# Altium schematic symbol library HW_ADHERENT_SYSCTRL_R1_L4.SchLib: 1634 symbols (part 15 of 31)
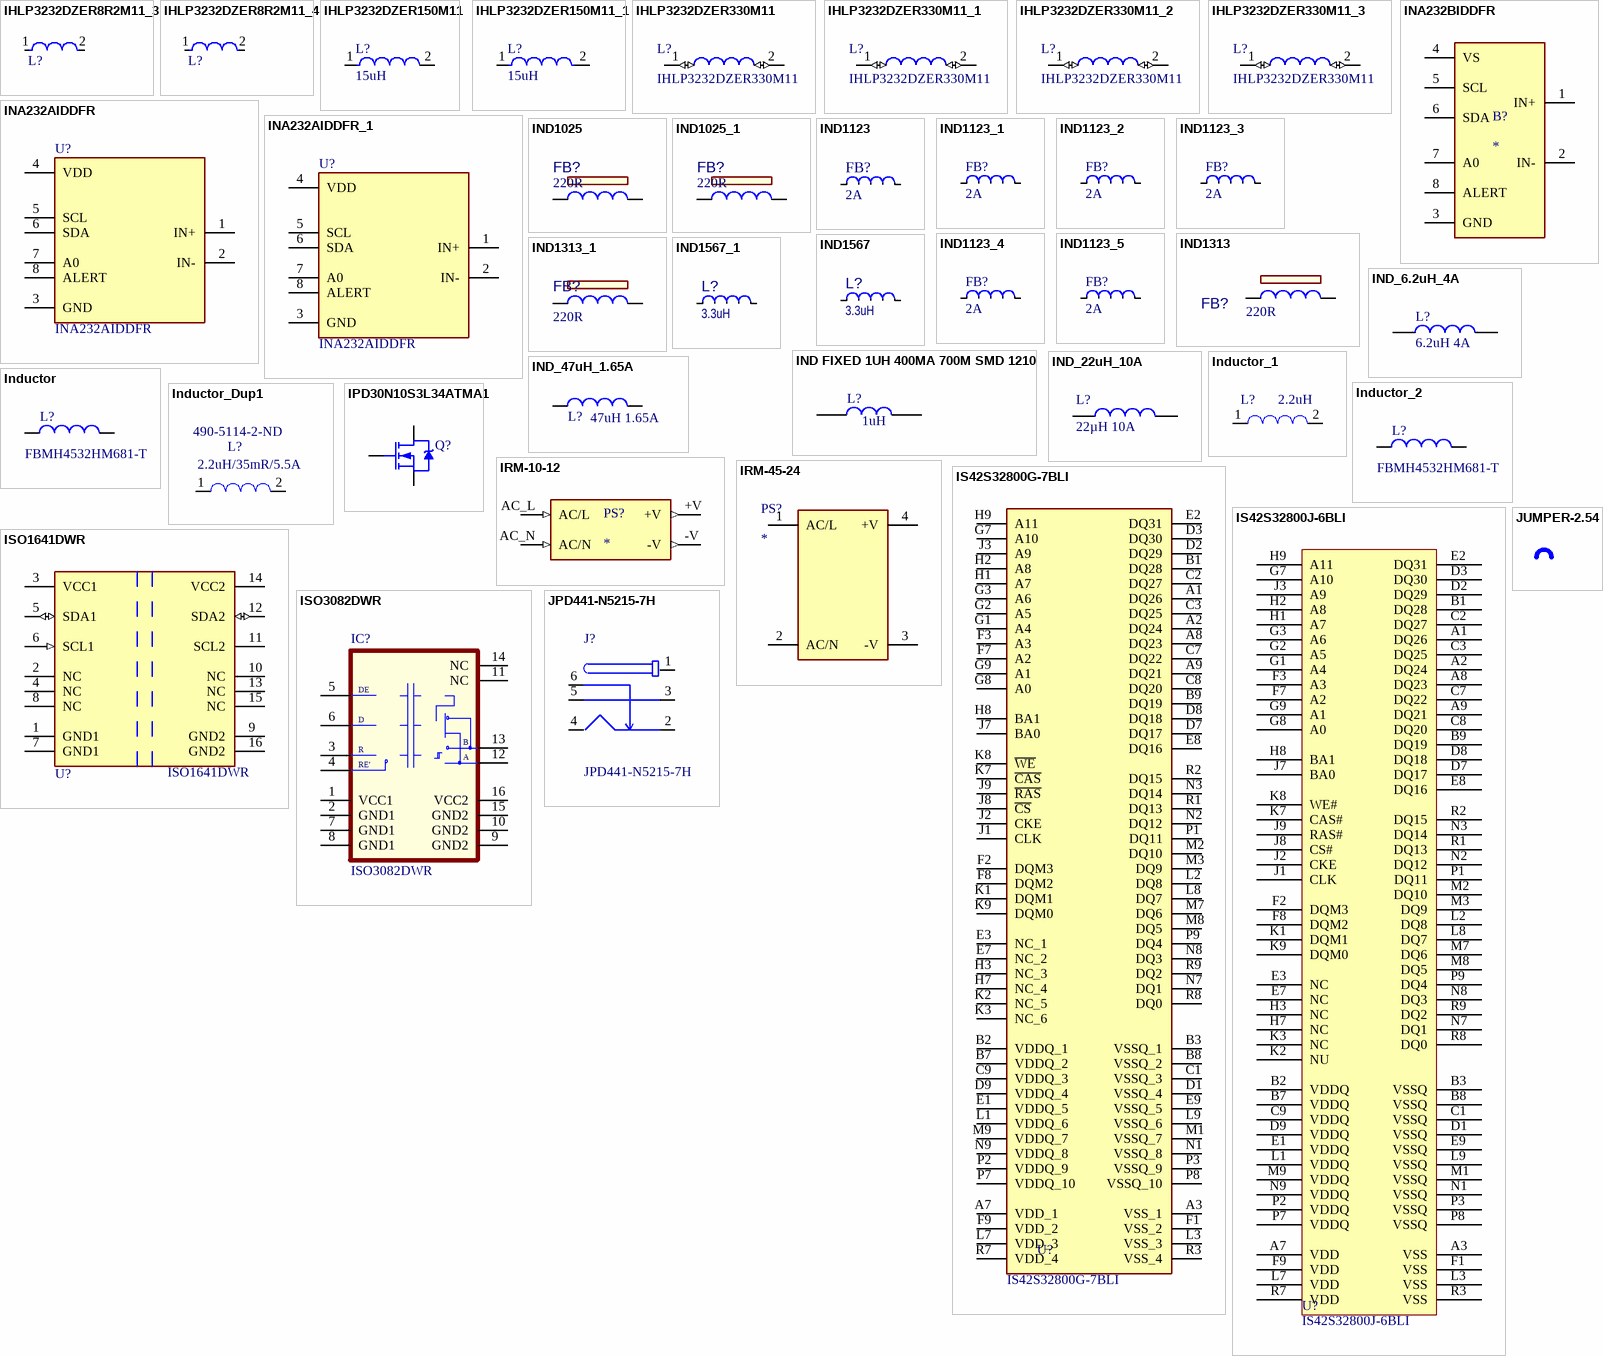
[diagram p64: symbols IHLP3232DZER8R2M11_3 to JUMPER-2.54]

## Inductor
designator L?, comment FBMH4532HM681-T
FERRITE BEAD 680 OHM 1812 1LN; Manufacturer: Taiyo Yuden; Value: FBMH4532HM681-T; Manufacturer Part Number: FBMH4532HM681-T; Supplier Part Number: 587-1761-1-ND
simulation model INDUCTOR (Inductor)
signal-integrity model Inductor
footprint FB_FBMH4532HM681-T (FBMH4532HM681-T)
pins: 1, 2

## Inductor_1
designator L?, comment 2.2uH
Power Inductor,2.2uH,+/-20,SPH,3.0*3.0*1.2mm,SMD,Sunlord; Manufacturer P/N: SPH3012H2R2MT; PCB Footprint: L3X3; Myir P/N: 20501.00034; Part Type: Power Inductor; Manufacturer: Sunlord; Reserve Value: 2.2uH; Datasheet: SPH series of SMD Power Inductor.pdf
footprint VLCF5020T
footprint L3X3
pins: 1, 2

## Inductor_2
designator L?, comment FBMH4532HM681-T
FERRITE BEAD 680 OHM 1812 1LN; Manufacturer: Taiyo Yuden; Value: FBMH4532HM681-T; Manufacturer Part Number: FBMH4532HM681-T; Supplier Part Number: 587-1761-1-ND
simulation model INDUCTOR (Inductor)
signal-integrity model Inductor
footprint FB_FBMH4532HM681-T (FBMH4532HM681-T)
pins: 1, 2

## Inductor_Dup1
designator L?, comment 2.2uH/35mR/5.5A  Supplier Part Number 1: 490-5114-2-ND
Inductor Power Chip Shielded Multi-Layer 2.2uH 20% 1MHz Ferrite 1.3A 100mOhm DCR 1008 T/R; RP1 Manufacturer P/N: MWSA0503S-2R2MT; Manufacturer P/N: MPH0530-2R2M; Manufacturer: Vcoil; Manufacturer Part Number: LQM2HPN2R2MG0L; RP1 Myir P/N: 20501.00040; Myir P/N: 20501.00020; PCB Footprint: l5_2x5_5; Self Resonant Frequency: 40MHz; DC Resistance (DCR): 80mR; Series Resistance: 100mR; Voltage Rating: 50V; Datasheet: MPH-Inductor.pdf; Reserve Value: 2.2uH; Part Type: Power Inductor; Supplier 1: Digikey; RoHS: Yes; Category: Fixed Inductors; Stock 1: 123000; Pricing 1: 3000=0.08405, 6000=0.08142, 15000=0.07879, 30000=0.07617, 75000=0.07354 (USD); Mount: Surface Mount; Case/Package: 1008; Number of Pins: 2NUMBER; Core Material: Ferrite; Case Code (Metric): 2520; Case Code (Imperial): 1008; Min Operating Temperature: -55°C; Max Operating Temperature: 125°C; Packaging: Tape and Reel; Shielding: Shielded; Tolerance: 20%; Package Quantity: 1; Current Rating: 1.3A; Inductance: 2.2uH; Max DC Current: 1.3A; Termination: SMD/SMT; Test Frequency: 1MHz; DC Current: 1.3A; Inductance Tolerance: 20%; Series: LQM2HP_G0; RMS Current (Irms): 1.3A; Voltage Rating (DC): 50V; Length: 2.5mm; Width: 0.079inch; Height: 1.2mm; Height - Seated (Max): 0.039inch; Depth: 2.2mm; Lead Pitch: 5mm; Radiation Hardening: No; Military Standard: Not; Reach SVHC Compliant: No; RoHS Compliant: Yes; Lead Free: 5697LeadFree; ComponentLink1URL: https://datasheet.ciiva.com/30490/0900766b812561d9-30490188.pdf?src-supplier=Rs; ComponentLink1Description: https://datasheet.ciiva.com/30490/0900766b812561d9-30490188.pdf?src-supplier=Rs; ComponentLink2URL: https://datasheet.ciiva.com/18089/getdatasheetpartid-153082-18089633.pdf?src-supplier=Verical; ComponentLink2Description: https://datasheet.ciiva.com/18089/getdatasheetpartid-153082-18089633.pdf?src-supplier=Verical; ComponentLink3URL: https://datasheet.ciiva.com/1042/l0075s0104lqm2hp-g0-1042920.pdf?src-supplier=Digikey; ComponentLink3Description: https://datasheet.ciiva.com/1042/l0075s0104lqm2hp-g0-1042920.pdf?src-supplier=Digikey; ComponentLink4URL: https://datasheet.ciiva.com/1042/l0075s0104lqm2hp-g0-1042919.pdf?src-supplier=Digikey; ComponentLink4Description: https://datasheet.ciiva.com/1042/l0075s0104lqm2hp-g0-1042919.pdf?src-supplier=Digikey; ComponentLink5URL: https://datasheet.ciiva.com/1042/l0075s0104lqm2hp-g0-1042921.pdf?src-supplier=Digikey; ComponentLink5Description: https://datasheet.ciiva.com/1042/l0075s0104lqm2hp-g0-1042921.pdf?src-supplier=Digikey; ComponentLink6URL: https://datasheet.ciiva.com/4959/product-4959558.pdf?src-supplier=Mouser; ComponentLink6Description: https://datasheet.ciiva.com/4959/product-4959558.pdf?src-supplier=Mouser; ComponentLink7URL: https://datasheet.ciiva.com/8510/l0075s0104lqm2hp-g0-8510494.pdf?src-supplier=Avnet; ComponentLink7Description: https://datasheet.ciiva.com/8510/l0075s0104lqm2hp-g0-8510494.pdf?src-supplier=Avnet
footprint VLCF5020T
footprint l5_2x5_5
pins: 1, 2

## IPD30N10S3L34ATMA1
designator Q?, comment MOSFET N-CH 100V 30A TO252-3  (value not drawn)
N-Channel 100 V 30A (Tc) 57W (Tc) Surface Mount PG-TO252-3-11; Manufacturer Part Number: IPD30N10S3L34ATMA1; Value: N-Channel 100 V 30A (Tc) 57W (Tc) Surface Mount PG-TO252-3-11
footprint TO-252_L6.5-W6.1-P4.58-LS9.9-BR
pins: 1 G, 2 D, 3 S

## IRM-10-12
designator PS?
Power Supply,AC-DC,12V,0.85A,100-264V In,Encapsulated,Thru-Hole,IRM Series | MEAN WELL IRM-10-12; SnapEDA_Link: https://www.snapeda.com/parts/IRM-10-12/Mean+Well/view-part/?ref=snap; Package: None; Value: *; MF: MEAN WELL; MP: IRM-10-12; Check_prices: https://www.snapeda.com/parts/IRM-10-12/Mean+Well/view-part/?ref=eda
footprint CONV_IRM-10-12
pins: +V (out), -V (out), AC_L AC/L (in), AC_N AC/N (in)

## IRM-45-24
designator PS?
Power Supply; Manufacturer_Name: Mean Well; Manufacturer_Part_Number: IRM-45-24; Datasheet Link: http://www.meanwell.com/webapp/product/search.aspx?prod=IRM-45; Mouser Part Number: 709-IRM45-24; Mouser Price/Stock: https://www.mouser.co.uk/ProductDetail/MEAN-WELL/IRM-45-24?qs=yID0DEbBT%252BnXaXs%252BF7qwwg%3D%3D; Arrow Part Number: IRM-45-24; Arrow Price/Stock: https://www.arrow.com/en/products/irm-45-24/mean-well-enterprises?region=europe
footprint IRM-45-48
pins: 1 AC/L, 2 AC/N, 3 -V, 4 +V

## IS42S32800G-7BLI
designator U?, comment Manufacturer Part Number: IS42S32800G-7BLI  (hidden comment: IC DRAM 256MBIT PAR 90TFBGA)
SDRAM Memory IC 256Mbit Parallel 143 MHz 5.4 ns 90-TFBGA (8x13); Manufacturer Name: Integrated Silicon Solution Inc.; Order Code: Mouser: 870-IS42S32800G-7BLI; Datasheet Link: https://componentsearchengine.com/Datasheets/1/IS42S32800G-6BLI.pdf; Height: 1.2mm
footprint TFBGA-90
pins: A1 DQ26, A2 DQ24, A3 VSS_1, A7 VDD_1, A8 DQ23, A9 DQ21, B1 DQ28, B2 VDDQ_1, B3 VSSQ_1, B7 VDDQ_2, B8 VSSQ_2, B9 DQ19, C1 VSSQ_3, C2 DQ27, C3 DQ25, C7 DQ22, C8 DQ20, C9 VDDQ_3, D1 VSSQ_4, D2 DQ29, D3 DQ30, D7 DQ17, D8 DQ18, D9 VDDQ_4, E1 VDDQ_5, E2 DQ31, E3 NC_1, E7 NC_2, E8 DQ16, E9 VSSQ_5, F1 VSS_2, F2 DQM3, F3 A3, F7 A2, F8 DQM2, F9 VDD_2, G1 A4, G2 A5, G3 A6, G7 A10, G8 A0, G9 A1, H1 A7, H2 A8, H3 NC_3, H7 NC_4, H8 BA1, H9 A11, J1 CLK, J2 CKE, J3 A9, J7 BA0, J8 ~{CS}, J9 ~{RAS}, K1 DQM1, K2 NC_5, K3 NC_6, K7 ~{CAS}, K8 ~{WE}, K9 DQM0, L1 VDDQ_6, L2 DQ8, L3 VSS_3, L7 VDD_3, L8 DQ7, L9 VSSQ_6, M1 VSSQ_7, M2 DQ10, M3 DQ9, M7 DQ6, M8 DQ5, M9 VDDQ_7, N1 VSSQ_8, N2 DQ12, N3 DQ14, N7 DQ1, N8 DQ3, N9 VDDQ_8, P1 DQ11, P2 VDDQ_9, P3 VSSQ_9, P7 VDDQ_10, P8 VSSQ_10, P9 DQ4, R1 DQ13, R2 DQ15, R3 VSS_4, R7 VDD_4, R8 DQ0, R9 DQ2

## IS42S32800J-6BLI
designator U?
SDRAM Memory IC 256Mbit Parallel 166 MHz 5.4 ns 90-TFBGA (8x13); Order Code: DIGI: 706-1451-ND; Manufacturer Part Number: IS42S32800J-6BLI
footprint TFBGA-90
pins: A1 DQ26, A2 DQ24, A3 VSS, A7 VDD, A8 DQ23, A9 DQ21, B1 DQ28, B2 VDDQ, B3 VSSQ, B7 VDDQ, B8 VSSQ, B9 DQ19, C1 VSSQ, C2 DQ27, C3 DQ25, C7 DQ22, C8 DQ20, C9 VDDQ, D1 VSSQ, D2 DQ29, D3 DQ30, D7 DQ17, D8 DQ18, D9 VDDQ, E1 VDDQ, E2 DQ31, E3 NC, E7 NC, E8 DQ16, E9 VSSQ, F1 VSS, F2 DQM3, F3 A3, F7 A2, F8 DQM2, F9 VDD, G1 A4, G2 A5, G3 A6, G7 A10, G8 A0, G9 A1, H1 A7, H2 A8, H3 NC, H7 NC, H8 BA1, H9 A11, J1 CLK, J2 CKE, J3 A9, J7 BA0, J8 CS#, J9 RAS#, K1 DQM1, K2 NU, K3 NC, K7 CAS#, K8 WE#, K9 DQM0, L1 VDDQ, L2 DQ8, L3 VSS, L7 VDD, L8 DQ7, L9 VSSQ, M1 VSSQ, M2 DQ10, M3 DQ9, M7 DQ6, M8 DQ5, M9 VDDQ, N1 VSSQ, N2 DQ12, N3 DQ14, N7 DQ1, N8 DQ3, N9 VDDQ, P1 DQ11, P2 VDDQ, P3 VSSQ, P7 VDDQ, P8 VSSQ, P9 DQ4, R1 DQ13, R2 DQ15, R3 VSS, R7 VDD, R8 DQ0, R9 DQ2

## ISO1641DWR
designator U?
I²C Digital Isolator 5000Vrms 2 Channel 50kV/µs CMTI 16-SOIC (0.295", 7.50mm Width); Manufacturer: Texas Instruments; Manufacturer Part Number: ISO1641DWR
footprint Texas_Instruments_DW0016A_IPC_B
pins: 1 GND1 (power), 2 NC, 3 VCC1 (power), 4 NC, 5 SDA1 (io), 6 SCL1 (in), 7 GND1 (power), 8 NC, 9 GND2 (power), 10 NC, 11 SCL2, 12 SDA2 (io), 13 NC, 14 VCC2 (power), 15 NC, 16 GND2 (power)

## ISO3082DWR
designator IC?
IC TXRX ISO ISO3082DWR RS422/485 2.5KV 3CH 200KBPS 16SOIC; Manufacturer: TEXAS; Code: 3000004; Family: IC; Manufacturer Part Name: ISO3082DWR; Supplier: Digikey; Supplier No: 296-37891-6-ND; Package Reference: 16-SOIC; Value: ISO3082DWR
footprint SOIC127P1030-16N (SOIC, 16-Leads, Body 10.3x7.5mm, Pitch 1.27mm, IPC Medium Density)
footprint Model Name (Footprint not found)
pins: 1 VCC1 (power), 2 GND1 (power), 3 R, 4 ~{RE}, 5 DE, 6 D, 7 GND1 (power), 8 GND1 (power), 9 GND2 (power), 10 GND2 (power), 11 NC, 12 A, 13 B, 14 NC, 15 GND2 (power), 16 VCC2 (power)
text: RE'

## JPD441-N5215-7H
designator J?
Connector,DC Jack,Male,Right angle,7A &30¡ãC,Foxconn; Myir P/N: 21115.00002; PCB Footprint: JPD441-N5215-7H; Part Type: DC Connector; Manufacturer: Foxconn; Manufacturer P/N: JPD441-N5215-7H; Reserve Value: JPD441-N5215-7H; Datasheet: DC_JACK_Foxconn_JPD441-N5215-7H.pdf
footprint JPD441-N5215-7H
pins: 1, 2, 3, 4, 5, 6

## JUMPER-2.54
designator Z?, comment Jumper Pitch 2.54  (value not drawn)
Jumper,2 Points Jumper Pitch 2.54; Manufacturer Part Number: G4160-1A60BF1U; Manufacturer: WIESON; Part Number: 440-00002-1; FAB: NA; REF: JUMPER 2.54; PCB Footprint: JUMPER-2.54; DESIG: 2 POINTS JUMPER PITCH 2.54; VAL: JUMPER 2.54; BOI: NA; Part Type: Jumper
footprint JUMPER-2.54

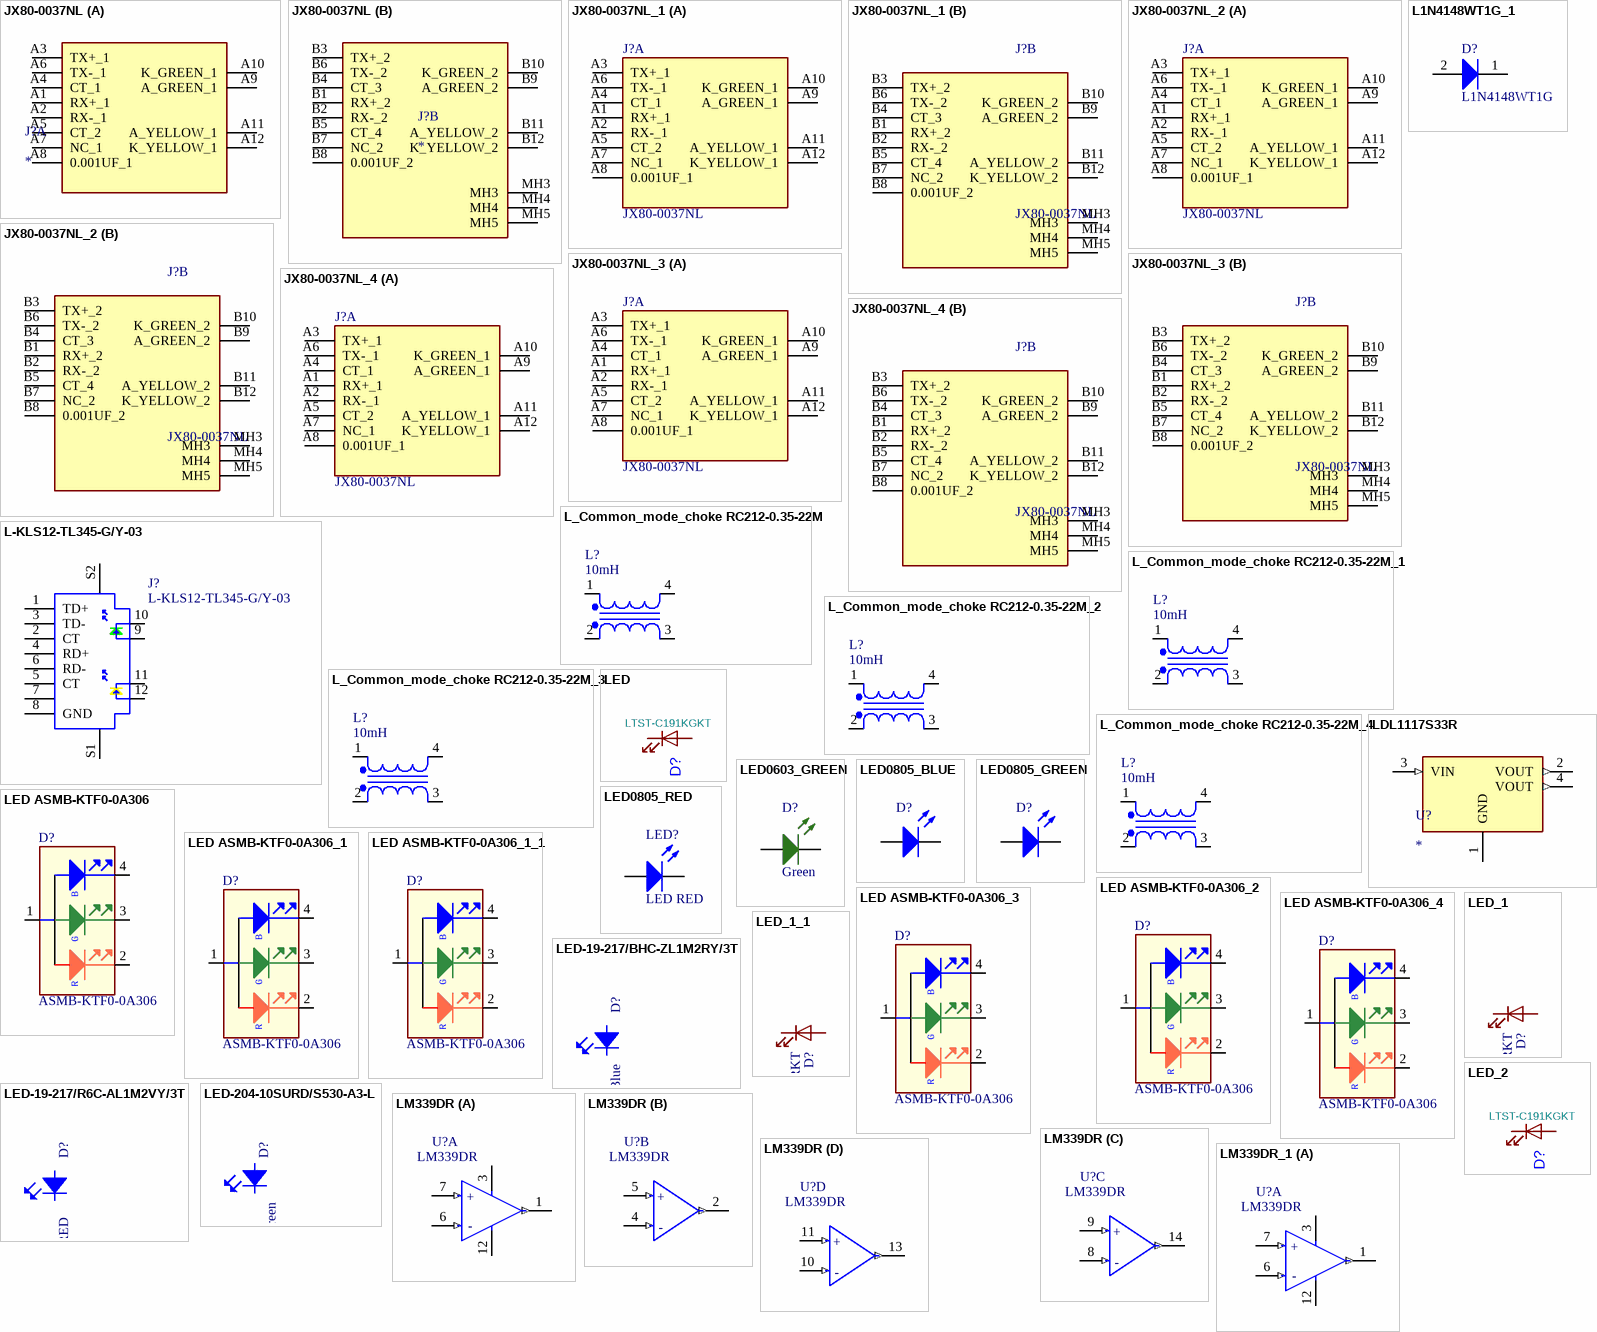
[diagram p26: symbols JX80-0037NL to LM339DR_1]

## JX80-0037NL
designator J?
Connector; Manufacturer_Name: Pulse Electronics; Manufacturer_Part_Number: JX80-0037NL; Datasheet Link: https://componentsearchengine.com/Datasheets/1/JX80-0037NL.pdf; Height: 13.61mm; Mouser Part Number: 673-JX80-0037NL; Mouser Price/Stock: https://www.mouser.co.uk/ProductDetail/Pulse-Electronics/JX80-0037NL?qs=FESYatJ8odIT4jQ9naiDGw%3D%3D
footprint JX800037NL
part A pins: A1 RX+_1, A2 RX-_1, A3 TX+_1, A4 CT_1, A5 CT_2, A6 TX-_1, A7 NC_1, A8 0.001UF_1, A9 A_GREEN_1, A10 K_GREEN_1, A11 A_YELLOW_1, A12 K_YELLOW_1
part B pins: B1 RX+_2, B2 RX-_2, B3 TX+_2, B4 CT_3, B5 CT_4, B6 TX-_2, B7 NC_2, B8 0.001UF_2, B9 A_GREEN_2, B10 K_GREEN_2, B11 A_YELLOW_2, B12 K_YELLOW_2, MH3, MH4, MH5

## JX80-0037NL_1
designator J?, comment JX80-0037NL
Connector; Manufacturer_Name: Pulse Electronics; Datasheet Link: https://componentsearchengine.com/Datasheets/1/JX80-0037NL.pdf; Height: 13.61mm; Manufacturer_Part_Number: JX80-0037NL; Mouser Part Number: 673-JX80-0037NL; Mouser Price/Stock: https://www.mouser.co.uk/ProductDetail/Pulse-Electronics/JX80-0037NL?qs=FESYatJ8odIT4jQ9naiDGw%3D%3D
footprint JX800037NL
part A pins: A1 RX+_1, A2 RX-_1, A3 TX+_1, A4 CT_1, A5 CT_2, A6 TX-_1, A7 NC_1, A8 0.001UF_1, A9 A_GREEN_1, A10 K_GREEN_1, A11 A_YELLOW_1, A12 K_YELLOW_1
part B pins: B1 RX+_2, B2 RX-_2, B3 TX+_2, B4 CT_3, B5 CT_4, B6 TX-_2, B7 NC_2, B8 0.001UF_2, B9 A_GREEN_2, B10 K_GREEN_2, B11 A_YELLOW_2, B12 K_YELLOW_2, MH3, MH4, MH5

## JX80-0037NL_2
designator J?, comment JX80-0037NL
Connector; Manufacturer_Name: Pulse Electronics; Datasheet Link: https://componentsearchengine.com/Datasheets/1/JX80-0037NL.pdf; Height: 13.61mm; Manufacturer_Part_Number: JX80-0037NL; Mouser Part Number: 673-JX80-0037NL; Mouser Price/Stock: https://www.mouser.co.uk/ProductDetail/Pulse-Electronics/JX80-0037NL?qs=FESYatJ8odIT4jQ9naiDGw%3D%3D
footprint JX800037NL
part A pins: A1 RX+_1, A2 RX-_1, A3 TX+_1, A4 CT_1, A5 CT_2, A6 TX-_1, A7 NC_1, A8 0.001UF_1, A9 A_GREEN_1, A10 K_GREEN_1, A11 A_YELLOW_1, A12 K_YELLOW_1
part B pins: B1 RX+_2, B2 RX-_2, B3 TX+_2, B4 CT_3, B5 CT_4, B6 TX-_2, B7 NC_2, B8 0.001UF_2, B9 A_GREEN_2, B10 K_GREEN_2, B11 A_YELLOW_2, B12 K_YELLOW_2, MH3, MH4, MH5

## JX80-0037NL_3
designator J?, comment JX80-0037NL
Connector; Manufacturer_Name: Pulse Electronics; Datasheet Link: https://componentsearchengine.com/Datasheets/1/JX80-0037NL.pdf; Height: 13.61mm; Manufacturer_Part_Number: JX80-0037NL; Mouser Part Number: 673-JX80-0037NL; Mouser Price/Stock: https://www.mouser.co.uk/ProductDetail/Pulse-Electronics/JX80-0037NL?qs=FESYatJ8odIT4jQ9naiDGw%3D%3D
footprint JX800037NL
part A pins: A1 RX+_1, A2 RX-_1, A3 TX+_1, A4 CT_1, A5 CT_2, A6 TX-_1, A7 NC_1, A8 0.001UF_1, A9 A_GREEN_1, A10 K_GREEN_1, A11 A_YELLOW_1, A12 K_YELLOW_1
part B pins: B1 RX+_2, B2 RX-_2, B3 TX+_2, B4 CT_3, B5 CT_4, B6 TX-_2, B7 NC_2, B8 0.001UF_2, B9 A_GREEN_2, B10 K_GREEN_2, B11 A_YELLOW_2, B12 K_YELLOW_2, MH3, MH4, MH5

## JX80-0037NL_4
designator J?, comment JX80-0037NL
Connector; Manufacturer_Name: Pulse Electronics; Datasheet Link: https://componentsearchengine.com/Datasheets/1/JX80-0037NL.pdf; Height: 13.61mm; Manufacturer_Part_Number: JX80-0037NL; Mouser Part Number: 673-JX80-0037NL; Mouser Price/Stock: https://www.mouser.co.uk/ProductDetail/Pulse-Electronics/JX80-0037NL?qs=FESYatJ8odIT4jQ9naiDGw%3D%3D
footprint JX800037NL
part A pins: A1 RX+_1, A2 RX-_1, A3 TX+_1, A4 CT_1, A5 CT_2, A6 TX-_1, A7 NC_1, A8 0.001UF_1, A9 A_GREEN_1, A10 K_GREEN_1, A11 A_YELLOW_1, A12 K_YELLOW_1
part B pins: B1 RX+_2, B2 RX-_2, B3 TX+_2, B4 CT_3, B5 CT_4, B6 TX-_2, B7 NC_2, B8 0.001UF_2, B9 A_GREEN_2, B10 K_GREEN_2, B11 A_YELLOW_2, B12 K_YELLOW_2, MH3, MH4, MH5

## L1N4148WT1G_1
designator D?, comment Manufacturer Part Number: L1N4148WT1G  (hidden comment: 100V 425mW Single 1.25V 4ns 200mA SOD-123 Switching Diode ROHS)
Order Code: LCSC: C78089; LCSC Manufacturer Part Number: L1N4148WT1G; LCSC Part Number: C78089
footprint SOD-123_L2.8-W1.8-LS3.7-RD
pins: 1 K, 2 A

## L-KLS12-TL345-G/Y-03
designator J?
Manufacturer: KLS; Manufacturer Part Number: L-KLS12-TL345-G/Y-03; Supplier 1: OZDISAN
footprint L-KLS12-TL345-G/Y-03 (Connector, 12-Leads, Body 17.27x15.75mm, Pitch 1.016mm)
footprint L-KLS12-TL345-G/Y-03_1 (Connector, 12-Leads, Body 17.27x15.75mm, Pitch 1.016mm)
pins: 1 TD+, 2 CT, 3 TD-, 4 RD+, 5 CT, 6 RD-, 7, 8 GND, 9, 10, 11, 12, S1, S2

## L_Common_mode_choke RC212-0.35-22M
designator L?, comment 10mH
CMC 10MH 2A 2LN TH; Manufacturer: Würth Elektronik; Manufacturer Part Number: 744823210; Value: 10mH; Supplier Part Number: 732-1447-ND
footprint RADIAL, 23X13X28MM (PN: 744823210)
pins: 1, 2, 3, 4

## L_Common_mode_choke RC212-0.35-22M_1
designator L?, comment 10mH
CMC 10MH 2A 2LN TH; Manufacturer: Würth Elektronik; Manufacturer Part Number: 744823210; Value: 10mH; Supplier Part Number: 732-1447-ND
footprint RADIAL, 23X13X28MM (PN: 744823210)
pins: 1, 2, 3, 4

## L_Common_mode_choke RC212-0.35-22M_2
designator L?, comment 10mH
CMC 10MH 2A 2LN TH; Manufacturer: Würth Elektronik; Manufacturer Part Number: 744823210; Value: 10mH; Supplier Part Number: 732-1447-ND
footprint RADIAL, 23X13X28MM (PN: 744823210)
pins: 1, 2, 3, 4

## L_Common_mode_choke RC212-0.35-22M_3
designator L?, comment 10mH
CMC 10MH 2A 2LN TH; Manufacturer: Würth Elektronik; Manufacturer Part Number: 744823210; Value: 10mH; Supplier Part Number: 732-1447-ND
footprint RADIAL, 23X13X28MM (PN: 744823210)
pins: 1, 2, 3, 4

## L_Common_mode_choke RC212-0.35-22M_4
designator L?, comment 10mH
CMC 10MH 2A 2LN TH; Manufacturer: Würth Elektronik; Manufacturer Part Number: 744823210; Value: 10mH; Supplier Part Number: 732-1447-ND
footprint RADIAL, 23X13X28MM (PN: 744823210)
pins: 1, 2, 3, 4

## LDL1117S33R
designator U?
Linear Voltage Regulator IC Positive Fixed 1 Output 1.2A SOT-223; MPN: LDL1117S33R; Supplier: 497-17239-6-ND - Digi-Reel®
footprint SOT230P700X180-4N
pins: 1 GND (power), 2 VOUT (out), 3 VIN (in), 4 VOUT (out)

## LED
designator D?, comment LTST-C191KGKT
LED, Bright Green, 0603; Manufacturer: Lite-On Inc.; Footprint: LED_SMD:LED_0603_1608Metric; Manufacturer Part Number: LTST-C191KGKT; Supplier Part Number: 160-1446-1-ND; Value: LTST-C191KGKT
footprint LED0603 (Footprint not found)
pins: 1 A, 2 K

## LED0603_GREEN
designator D?, comment Green
LED GREEN CLEAR 0603 SMD; Manufacturer Part Number: 150060GS75000; Order Code: DIGI : 732-4971-1-ND; Value: Green
footprint LED0603
pins: 1 A, 2 K

## LED0805_BLUE
designator D?, comment LED BLUE  (value not drawn)
Blue 470nm LED Indication - Discrete 3V 0805 (2012 Metric); Manufacturer Part Number: IN-S85AT5B; Manufacturer: Inolux; Color: Red; ComponentLink1Description: Manufacturer URL; ComponentLink2Description: Datasheet; ComponentLink1URL: http://www.we-online.com; PackageReference: 0805_A; ComponentLink2URL: http://katalog.we-online.com/led/datasheet/150080RS75000.pdf
footprint LED0805 (Chip LED, 2-Leads, Body 2.0x1.3mm, IPC Medium Density)
pins: 1 K, 2 A

## LED0805_GREEN
designator D?, comment LED GREEN  (value not drawn)
Green 570nm LED Indication - Discrete 2.1V 0805 (2012 Metric); Manufacturer Part Number: QTLP630C4TR; Manufacturer: Everlight Electronics Co Ltd; Color: Red; ComponentLink1Description: Manufacturer URL; ComponentLink2Description: Datasheet; ComponentLink1URL: http://www.we-online.com; PackageReference: 0805_A; ComponentLink2URL: http://katalog.we-online.com/led/datasheet/150080RS75000.pdf
footprint LED0805 (Chip LED, 2-Leads, Body 2.0x1.3mm, IPC Medium Density)
pins: 1 K, 2 A

## LED0805_RED
designator LED?, comment LED RED
SMD mono-color Chip LED, WL-SMCW, Red; Manufacturer Part Number: 150080RS75000; Manufacturer: Wuerth Elektronik; ComponentLink1Description: Manufacturer URL; ComponentLink2Description: Datasheet; Color: Red; ComponentLink1URL: http://www.we-online.com; PackageReference: 0805_A; ComponentLink2URL: http://katalog.we-online.com/led/datasheet/150080RS75000.pdf
footprint LED0805 (Chip LED, 2-Leads, Body 2.0x1.3mm, IPC Medium Density)
pins: 1 K, 2 A

## LED ASMB-KTF0-0A306
designator D?, comment ASMB-KTF0-0A306
LED RGB 4PLCC SMD; Manufacturer: Broadcom Limited; Value: ASMB-KTF0-0A306; Manufacturer Part Number: ASMB-KTF0-0A306; Supplier Part Number: 516-3906-1-ND
footprint SMD 2.2x2.0mm (ASMB-KTF0-0A306)
pins: 1 Anode, 2 CATHODE1, 3 CATHODE2, 4 CATHODE3
text: B; G; R

## LED ASMB-KTF0-0A306_1
designator D?, comment ASMB-KTF0-0A306
LED RGB 4PLCC SMD; Manufacturer: Broadcom Limited; Manufacturer Part Number: ASMB-KTF0-0A306; Supplier Part Number: 516-3906-1-ND; Value: ASMB-KTF0-0A306
footprint SMD 2.2x2.0mm (ASMB-KTF0-0A306)
pins: 1 Anode, 2 CATHODE1, 3 CATHODE2, 4 CATHODE3
text: B; G; R

## LED ASMB-KTF0-0A306_1_1
designator D?, comment ASMB-KTF0-0A306
LED RGB 4PLCC SMD; Manufacturer: Broadcom Limited; Manufacturer Part Number: ASMB-KTF0-0A306; Supplier Part Number: 516-3906-1-ND; Value: ASMB-KTF0-0A306
footprint SMD 2.2x2.0mm (ASMB-KTF0-0A306)
pins: 1 Anode, 2 CATHODE1, 3 CATHODE2, 4 CATHODE3
text: B; G; R

## LED ASMB-KTF0-0A306_2
designator D?, comment ASMB-KTF0-0A306
LED RGB 4PLCC SMD; Manufacturer: Broadcom Limited; Value: ASMB-KTF0-0A306; Manufacturer Part Number: ASMB-KTF0-0A306; Supplier Part Number: 516-3906-1-ND
footprint SMD 2.2x2.0mm (ASMB-KTF0-0A306)
pins: 1 Anode, 2 CATHODE1, 3 CATHODE2, 4 CATHODE3
text: B; G; R

## LED ASMB-KTF0-0A306_3
designator D?, comment ASMB-KTF0-0A306
LED RGB 4PLCC SMD; Manufacturer: Broadcom Limited; Manufacturer Part Number: ASMB-KTF0-0A306; Supplier Part Number: 516-3906-1-ND; Value: ASMB-KTF0-0A306
footprint SMD 2.2x2.0mm (ASMB-KTF0-0A306)
pins: 1 Anode, 2 CATHODE1, 3 CATHODE2, 4 CATHODE3
text: B; G; R

## LED ASMB-KTF0-0A306_4
designator D?, comment ASMB-KTF0-0A306
LED RGB 4PLCC SMD; Manufacturer: Broadcom Limited; Manufacturer Part Number: ASMB-KTF0-0A306; Supplier Part Number: 516-3906-1-ND; Value: ASMB-KTF0-0A306
footprint SMD 2.2x2.0mm (ASMB-KTF0-0A306)
pins: 1 Anode, 2 CATHODE1, 3 CATHODE2, 4 CATHODE3
text: B; G; R

## LED-19-217/BHC-ZL1M2RY/3T
designator D?, comment Blue
LED,Brilliant Blue,Water Clear,10mA,SMD,0603,Everlight; Manufacturer P/N: 19-217/BHC-ZL1M2RY/3T; PCB Footprint: LED0603; Myir P/N: 20704.00011; Datasheet: 19-217-BHC-ZL1M2RY-3T.pdf; Reserve Value: Blue; Manufacturer: Everlight; Part Type: LED
footprint LED0603
pins: 1 A, 2 K

## LED-19-217/R6C-AL1M2VY/3T
designator D?, comment RED
LED,Brilliant Red,Water Clear,25mA,SMD,0603,Everlight; Manufacturer P/N: 19-217/R6C-AL1M2VY/3T; PCB Footprint: LED0603; Myir P/N: 20704.00010; Datasheet: 19-217-R6C-AL1M2VY-3T.pdf; Reserve Value: Red; Manufacturer: Everlight; Part Type: LED
footprint LED0603
pins: 1 A, 2 K

## LED-204-10SURD/S530-A3-L
designator D?, comment Green
LED,Brilliant Green,Water Clear,25mA,SMD,0603,Everlight,Everlight; Manufacturer P/N: 19-217/G7C-AN1P2-3T; PCB Footprint: LED0603; Myir P/N: 20704.80031; Part Type: LED; Manufacturer: Everlight; Reserve Value: Green; Datasheet: 19-217-G7C-AN1P2-3T.pdf
footprint LED0603
pins: 1 A, 2 K

## LED_1
designator D?, comment LTST-C191KRKT
LED RED CLEAR SMD; Manufacturer: Lite-On Inc.; Value: LTST-C191KRKT; Footprint: LED_SMD:LED_0603_1608Metric; Manufacturer Part Number: LTST-C191KRKT; Supplier Part Number: 160-1447-1-ND
footprint LED0603 (Footprint not found)
pins: 1 A, 2 K

## LED_1_1
designator D?, comment LTST-C191KRKT
LED RED CLEAR SMD; Manufacturer: Lite-On Inc.; Value: LTST-C191KRKT; Footprint: LED_SMD:LED_0603_1608Metric; Manufacturer Part Number: LTST-C191KRKT; Supplier Part Number: 160-1447-1-ND
footprint LED0603 (Footprint not found)
pins: 1 A, 2 K

## LED_2
designator D?, comment LTST-C191KGKT
LED, Bright Green, 0603; Manufacturer: Lite-On Inc.; Footprint: LED_SMD:LED_0603_1608Metric; Manufacturer Part Number: LTST-C191KGKT; Supplier Part Number: 160-1446-1-ND; Value: LTST-C191KGKT
footprint LED0603 (Footprint not found)
pins: 1 A, 2 K

## LM339DR
designator U?, comment Manufacturer Part Number: LM339DR  (hidden comment: IC COMPARATOR 4 DIFF 14SOIC)
Comparator Differential Open-Collector, Rail-to-Rail 14-SOIC
footprint Texas_Instruments_D0014A_IPC_A
part A pins: 1 1OUT (out), 3 VCC (power), 6 1IN- (in), 7 1IN+ (in), 12 GND (power)
part B pins: 2 2OUT (out), 4 2IN- (in), 5 2IN+ (in)
part C pins: 8 3IN- (in), 9 3IN+ (in), 14 OUT3 (out)
part D pins: 10 4IN- (in), 11 4IN+ (in), 13 OUT4 (out)
part A text: +; -
part B text: +; -
part C text: +; -
part D text: +; -

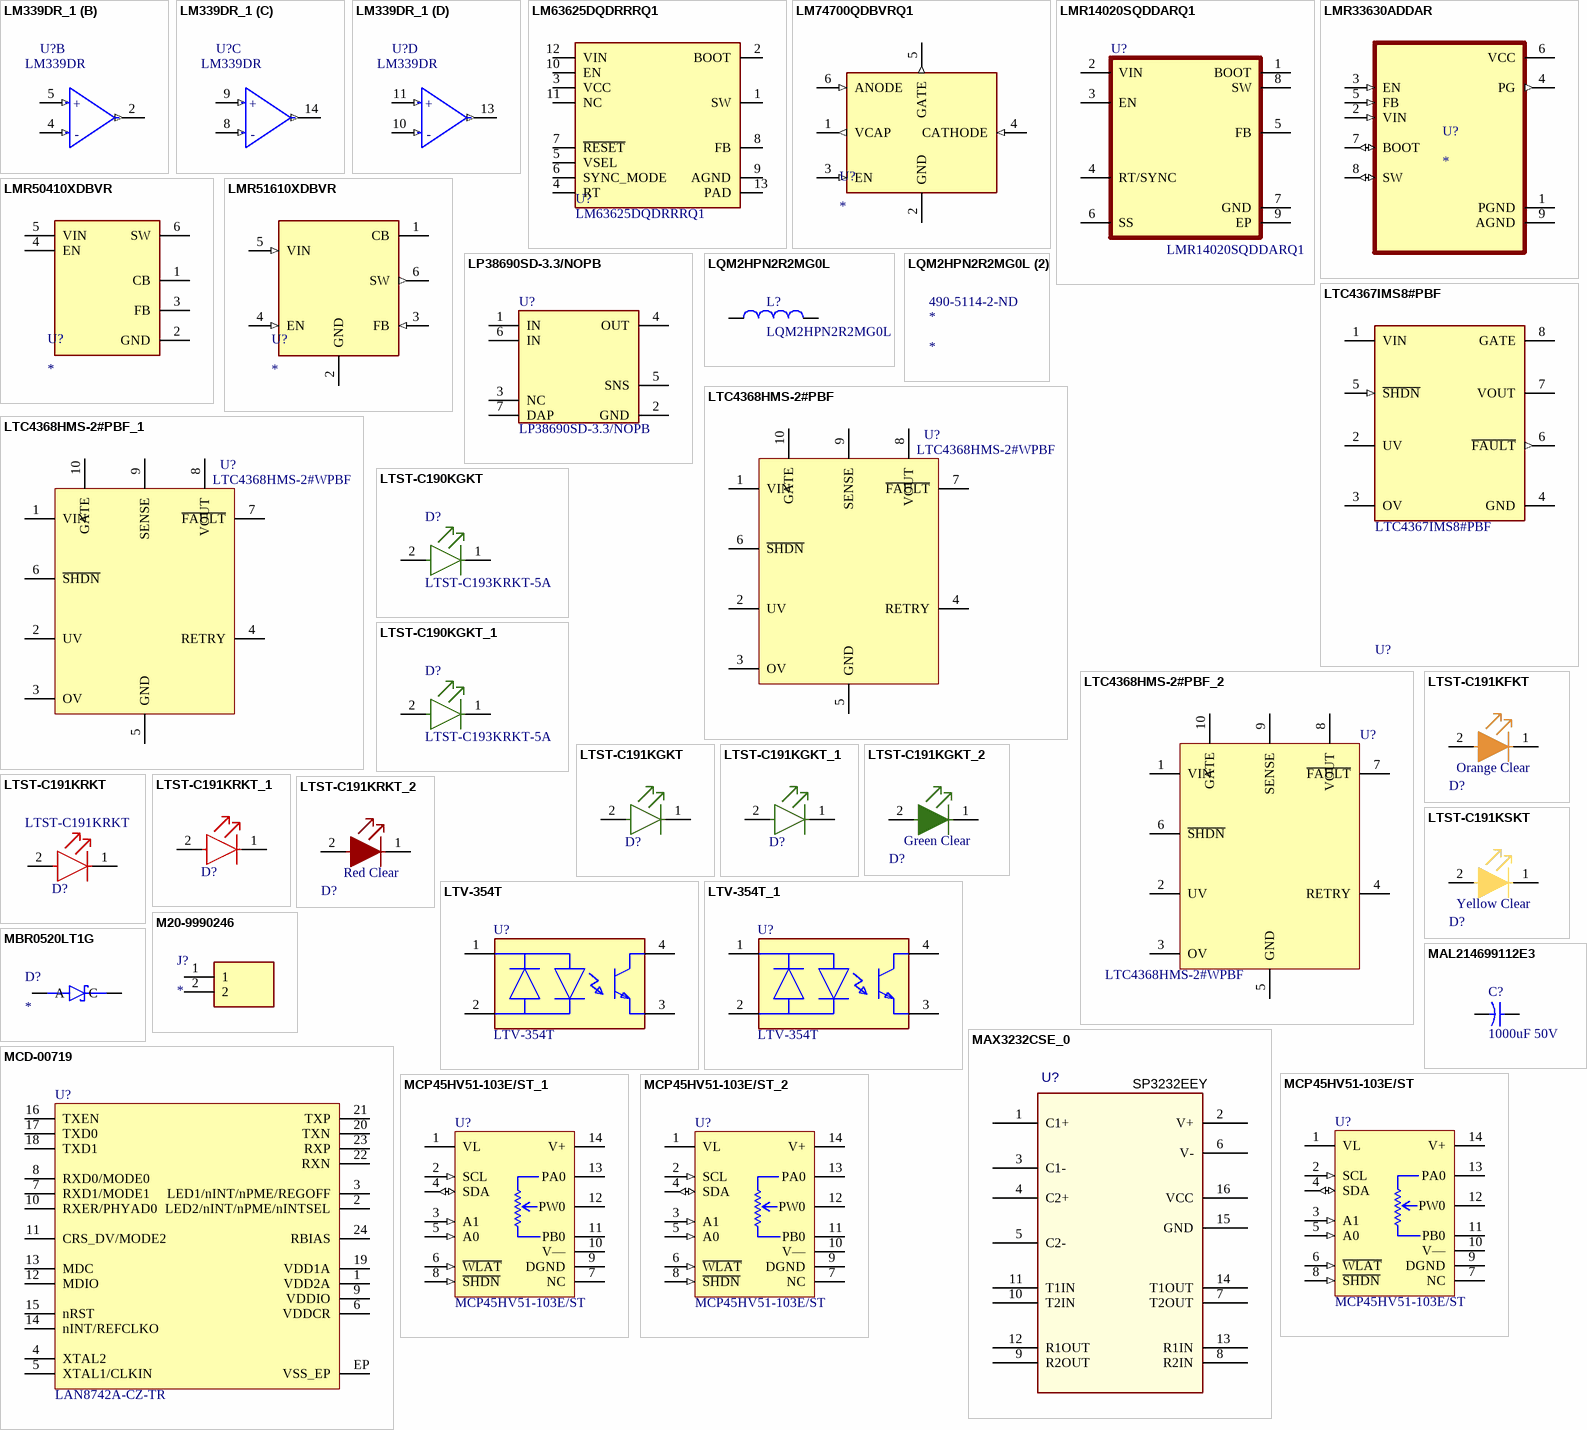
[diagram p27: symbols LM339DR_1 to MCP45HV51-103E/ST_2]

## LM339DR_1
designator U?, comment Manufacturer Part Number: LM339DR  (hidden comment: IC COMPARATOR 4 DIFF 14SOIC)
Comparator Differential Open-Collector, Rail-to-Rail 14-SOIC
footprint Texas_Instruments_D0014A_IPC_A
part A pins: 1 1OUT (out), 3 VCC (power), 6 1IN- (in), 7 1IN+ (in), 12 GND (power)
part B pins: 2 2OUT (out), 4 2IN- (in), 5 2IN+ (in)
part C pins: 8 3IN- (in), 9 3IN+ (in), 14 OUT3 (out)
part D pins: 10 4IN- (in), 11 4IN+ (in), 13 OUT4 (out)
part A text: +; -
part B text: +; -
part C text: +; -
part D text: +; -

## LM63625DQDRRRQ1
designator U?, comment Manufacturer Part Number: LM63625DQDRRRQ1  (hidden comment: IC REG BUCK ADJ 2.5A 12WSON)
Buck Switching Regulator IC Positive Adjustable 1V 1 Output 2.5A 12-WFDFN Exposed Pad; Manufacturer: Texas Instruments; Order Code: DIGI: LM63625DQDRRRQ1
footprint Ti_WSON-12 (WSON-12, thermal pad)
pins: 1 SW, 2 BOOT, 3 VCC, 4 RT, 5 VSEL, 6 SYNC_MODE, 7 ~{RESET}, 8 FB, 9 AGND, 10 EN, 11 NC, 12 VIN, 13 PAD

## LM74700QDBVRQ1
designator U?
OR Controller N+1 ORing Controller N-Channel 1:1 SOT-23-6
footprint SOT95P280X145-6N/LM74700QDBVRQ1
pins: 1 VCAP (out), 2 GND (power), 3 EN (in), 4 CATHODE (in), 5 GATE (out), 6 ANODE (in)

## LMR14020SQDDARQ1
designator U?
Automotive 40V, 2A SIMPLE SWITCHER, 2.2MHz Step-Down Regulator with 40uA IQ; Manufacturer_Name: Texas Instruments; Geometry.Height: 1.7mm; Manufacturer Part Number: LMR14020SQDDARQ1; Mouser Part Number: 595-LMR14020SQDDARQ1; Mouser Price/Stock: https://www.mouser.co.uk/ProductDetail/Texas-Instruments/LMR14020SQDDARQ1?qs=8%2FmU9qzJpL8PyB4AgU4Y8g%3D%3D; Arrow Part Number: LMR14020SQDDARQ1; Arrow Price/Stock: https://www.arrow.com/en/products/lmr14020sqddarq1/texas-instruments; Datasheet Link: http://www.ti.com/general/docs/suppproductinfo.tsp?distId=10&gotoUrl=http%3A%2F%2Fwww.ti.com%2Flit%2Fgpn%2Flmr14020-q1
footprint SOIC127P600X170-9N
pins: 1 BOOT, 2 VIN, 3 EN, 4 RT/SYNC, 5 FB, 6 SS, 7 GND, 8 SW, 9 EP

## LMR33630ADDAR
designator U?
SIMPLE SWITCHERÂ® 3.8V to 36V, 3A Synchronous Buck Converter With Ultra-Low EMI; MF: Texas Instruments; MP: LMR33630ADDAR; SnapEDA_Link: https://www.snapeda.com/parts/LMR33630ADDAR/Texas+Instruments/view-part/?ref=snap; Package: HSOIC-8 Texas Instruments; Value: *; Check_prices: https://www.snapeda.com/parts/LMR33630ADDAR/Texas+Instruments/view-part/?ref=eda
footprint VREG_LM5017MR/NOPB
pins: 1 PGND (power), 2 VIN (in), 3 EN (in), 4 PG (out), 5 FB (in), 6 VCC (power), 7 BOOT (io), 8 SW (io), 9 AGND (power)

## LMR50410XDBVR
designator U?
Buck Switching Regulator IC Positive Adjustable 1V 1 Output 1A SOT-23-6; MPN: LMR50410XDBVR; Supplier: 296-LMR50410XDBVRDKR-ND
footprint SOT95P280X145-6N/
pins: 1 CB, 2 GND, 3 FB, 4 EN, 5 VIN (power), 6 SW

## LMR51610XDBVR
designator U?
Buck Switching Regulator IC Positive Adjustable 0.8V 1 Output 1A SOT-23-6
footprint SOT95P280X145-6N/LMR51610XDBVR
pins: 1 CB (power), 2 GND (power), 3 FB (in), 4 EN (in), 5 VIN (in), 6 SW (out)

## LP38690SD-3.3/NOPB
designator U?
1A Low Dropout CMOS Linear Regulators Stable with Ceramic Output Capacitors, 6-pin LLP, Pb-Free; Manufacturer: National Semiconductor; PackageTopMarking: ZXYTT*L115B; PowerWise: Y; CompType: LDO IC; ComponentLink1Description: LP38690 Datasheet; ComponentLink2Description: LP38690 Web Page; DatasheetVersion: May-2005; PinCount: 6; ComponentLink1URL: http://www.national.com/ds/LP/LP38690.pdf; ComponentLink2URL: http://www.national.com/pf/LP/LP38690.html; RevisionNote: Component URLs added; ComponentLink3URL: http://www.national.com/packaging/folders/sde06a.html; ComponentLink3Description: SDE06A Package Page; PackageVersion: revA, Jul-2003; PackageReference: SDE06A; PackageDescription: LLP, Plastic, Dual, 3 x 3 x 0.8mm Body, 6 Lead, 0.95mm Pitch, No Pullback; RoHS: Y; Manufacturer Part Number: LP38690SD-3.3/NOPB
footprint SDE06A_quad (SON, 6-Leads, Body 3x3 mm, Pitch 0.95mm, NSC Recommended)
pins: 1 IN (power), 2 GND (power), 3 NC, 4 OUT (power), 5 SNS, 6 IN (power), 7 DAP (power)

## LQM2HPN2R2MG0L
designator L?
Inductor Power Chip Shielded Multi-Layer 2.2uH 20% 1MHz Ferrite 1.3A 100mOhm DCR 1008 T/R
footprint INDC2520X100N
pins: 1, 2

## LQM2HPN2R2MG0L (2)
designator *  Supplier Part Number 1: 490-5114-2-ND
Inductor Power Chip Shielded Multi-Layer 2.2uH 20% 1MHz Ferrite 1.3A 100mOhm DCR 1008 T/R; Manufacturer: Murata; Manufacturer Part Number: LQM2HPN2R2MG0L; Self Resonant Frequency: 40MHz; DC Resistance (DCR): 80mR; Series Resistance: 100mR; Voltage Rating: 50V; Supplier 1: Digikey; RoHS: Yes; Category: Fixed Inductors; Stock 1: 123000; Pricing 1: 3000=0.08405, 6000=0.08142, 15000=0.07879, 30000=0.07617, 75000=0.07354 (USD); Mount: Surface Mount; Case/Package: 1008; Number of Pins: 2NUMBER; Core Material: Ferrite; Case Code (Metric): 2520; Case Code (Imperial): 1008; Min Operating Temperature: -55°C; Max Operating Temperature: 125°C; Packaging: Tape and Reel; Shielding: Shielded; Tolerance: 20%; Package Quantity: 1; Current Rating: 1.3A; Inductance: 2.2uH; Max DC Current: 1.3A; Termination: SMD/SMT; Test Frequency: 1MHz; DC Current: 1.3A; Inductance Tolerance: 20%; Series: LQM2HP_G0; RMS Current (Irms): 1.3A; Voltage Rating (DC): 50V; Length: 2.5mm; Width: 0.079inch; Height: 1.2mm; Height - Seated (Max): 0.039inch; Depth: 2.2mm; Lead Pitch: 5mm; Radiation Hardening: No; Military Standard: Not; Reach SVHC Compliant: No; RoHS Compliant: Yes; Lead Free: 5697LeadFree; ComponentLink1URL: https://datasheet.ciiva.com/30490/0900766b812561d9-30490188.pdf?src-supplier=Rs; ComponentLink1Description: https://datasheet.ciiva.com/30490/0900766b812561d9-30490188.pdf?src-supplier=Rs; ComponentLink2URL: https://datasheet.ciiva.com/18089/getdatasheetpartid-153082-18089633.pdf?src-supplier=Verical; ComponentLink2Description: https://datasheet.ciiva.com/18089/getdatasheetpartid-153082-18089633.pdf?src-supplier=Verical; ComponentLink3URL: https://datasheet.ciiva.com/1042/l0075s0104lqm2hp-g0-1042920.pdf?src-supplier=Digikey; ComponentLink3Description: https://datasheet.ciiva.com/1042/l0075s0104lqm2hp-g0-1042920.pdf?src-supplier=Digikey; ComponentLink4URL: https://datasheet.ciiva.com/1042/l0075s0104lqm2hp-g0-1042919.pdf?src-supplier=Digikey; ComponentLink4Description: https://datasheet.ciiva.com/1042/l0075s0104lqm2hp-g0-1042919.pdf?src-supplier=Digikey; ComponentLink5URL: https://datasheet.ciiva.com/1042/l0075s0104lqm2hp-g0-1042921.pdf?src-supplier=Digikey; ComponentLink5Description: https://datasheet.ciiva.com/1042/l0075s0104lqm2hp-g0-1042921.pdf?src-supplier=Digikey; ComponentLink6URL: https://datasheet.ciiva.com/4959/product-4959558.pdf?src-supplier=Mouser; ComponentLink6Description: https://datasheet.ciiva.com/4959/product-4959558.pdf?src-supplier=Mouser; ComponentLink7URL: https://datasheet.ciiva.com/8510/l0075s0104lqm2hp-g0-8510494.pdf?src-supplier=Avnet; ComponentLink7Description: https://datasheet.ciiva.com/8510/l0075s0104lqm2hp-g0-8510494.pdf?src-supplier=Avnet

## LTC4367IMS8#PBF
designator U?, comment Manufacturer Part Number: LTC4367IMS8#PBF  (hidden comment: SUPPLY PROTECTION CONTROLLER)
Overvoltage, Undervoltage Protection PMIC 8-MSOP; Order Code: DIGI: LTC4367IMS8#PBF-ND
footprint Analog_Devices_MS8-8-05-08-1660_IPC_A
footprint Analog_Devices_MS8-8-05-08-1660_IPC_B
footprint Analog_Devices_MS8-8-05-08-1660_IPC_C
footprint Analog_Devices_MS8-8-05-08-1660_MFG
pins: 1 VIN (power), 2 UV, 3 OV, 4 GND (power), 5 ~{SHDN} (in), 6 ~{FAULT} (out), 7 VOUT, 8 GATE

## LTC4368HMS-2#PBF
designator U?, comment P/N: LTC4368HMS-2#WPBF  (hidden comment: ADJ)
IC SURGE SUPPRESSION ADJ 10MSOP; Order Code: DIGI :  161-LTC4368HMS-2#WPBF-ND; Value: ADJ
footprint MSOP10 (10-TFSOP, 10-MSOP (0.118", 3.00mm Width))
pins: 1 VIN, 2 UV, 3 OV, 4 RETRY, 5 GND, 6 ~{SHDN}, 7 ~{FAULT}, 8 VOUT, 9 SENSE, 10 GATE

## LTC4368HMS-2#PBF_1
designator U?, comment P/N: LTC4368HMS-2#WPBF  (hidden comment: ADJ)
IC SURGE SUPPRESSION ADJ 10MSOP; Order Code: DIGI :  161-LTC4368HMS-2#WPBF-ND; Value: ADJ
footprint MSOP10 (10-TFSOP, 10-MSOP (0.118", 3.00mm Width))
pins: 1 VIN, 2 UV, 3 OV, 4 RETRY, 5 GND, 6 ~{SHDN}, 7 ~{FAULT}, 8 VOUT, 9 SENSE, 10 GATE

## LTC4368HMS-2#PBF_2
designator U?, comment Manufacturer Part Number: LTC4368HMS-2#WPBF  (hidden comment: ADJ)
IC SURGE SUPPRESSION ADJ 10MSOP; Order Code: DIGI :  161-LTC4368HMS-2#WPBF-ND; Value: ADJ
footprint MSOP10
pins: 1 VIN, 2 UV, 3 OV, 4 RETRY, 5 GND, 6 ~{SHDN}, 7 ~{FAULT}, 8 VOUT, 9 SENSE, 10 GATE

## LTST-C190KGKT
designator D?, comment Manufacturer Part Number: LTST-C193KRKT-5A  (hidden comment: LED GREEN CLEAR CHIP SMD)
Green 571nm LED Indication - Discrete 2V 0603 (1608 Metric); Manufacturer: Lite-On Inc.; Order Code: Digi: 160-1830-2-ND; LCSC Part Number: C125094; LCSC Manufacturer Part Number: LTST-C193KRKT-5A
footprint LEDC1608X35N
pins: 1 C, 2 A

## LTST-C190KGKT_1
designator D?, comment Manufacturer Part Number: LTST-C193KRKT-5A  (hidden comment: LED GREEN CLEAR CHIP SMD)
Green 571nm LED Indication - Discrete 2V 0603 (1608 Metric); Manufacturer: Lite-On Inc.; Order Code: Digi: 160-1830-2-ND; LCSC Part Number: C125094; LCSC Manufacturer Part Number: LTST-C193KRKT-5A
footprint Lite-On_0_MFG_GREEN
pins: 1 C, 2 A

## LTST-C191KFKT
designator D?, comment Color: Orange Clear  (hidden comment: LED ORANGE CLEAR SMD)
Orange 605nm LED Indication - Discrete 2V 0603 (1608 Metric); Manufacturer Part Number: LTST-C191KFKT; Order Code: DIGI: 160-1445-2-ND
footprint Lite-On_Yellow_0603
pins: 1 C, 2 A

## LTST-C191KGKT
designator D?, comment LED GREEN CLEAR SMD  (value not drawn)
Green 571nm LED Indication - Discrete 2V 0603 (1608 Metric); Manufacturer Part Number: LTST-C191KGKT; Order Code: Digi: 160-1446-2-ND; LCSC Manufacturer Part Number: LTST-C191KGKT; LCSC Part Number: C125098
footprint Lite-On_GREEN_MFG
pins: 1 C, 2 A

## LTST-C191KGKT_1
designator D?, comment LED GREEN CLEAR SMD  (value not drawn)
Green 571nm LED Indication - Discrete 2V 0603 (1608 Metric); Manufacturer Part Number: LTST-C191KGKT; Order Code: Digi: 160-1446-2-ND; LCSC Manufacturer Part Number: LTST-C191KGKT; LCSC Part Number: C125098
footprint Lite-On_GREEN_MFG
pins: 1 C, 2 A

## LTST-C191KGKT_2
designator D?, comment Color: Green Clear  (hidden comment: LED GREEN CLEAR SMD)
Green 571nm LED Indication - Discrete 2V 0603 (1608 Metric); Manufacturer Part Number: LTST-C191KGKT; Order Code: DIGI: 160-1446-2-ND
footprint Lite-On_GREEN_0603
pins: 1 C, 2 A

## LTST-C191KRKT
designator D?
Red 631nm LED Indication - Discrete 2V 0603 (1608 Metric); Order Code: Digi: 160-1447-2-ND; Manufacturer Part Number: LTST-C191KRKT; LCSC Manufacturer Part Number: LTST-C191KRKT; LCSC Part Number: C125099
footprint Lite-On_0_MFG
pins: 1 C, 2 A

## LTST-C191KRKT_1
designator D?, comment LED RED CLEAR SMD  (value not drawn)
Red 631nm LED Indication - Discrete 2V 0603 (1608 Metric); Manufacturer Part Number: LTST-C191KRKT; Order Code: Digi: 160-1447-2-ND; LCSC Manufacturer Part Number: LTST-C191KRKT; LCSC Part Number: C125099
footprint Lite-On_0_MFG
pins: 1 C, 2 A

## LTST-C191KRKT_2
designator D?, comment Color: Red Clear  (hidden comment: LED RED CLEAR SMD)
Red 631nm LED Indication - Discrete 2V 0603 (1608 Metric); Manufacturer: Lite-On Inc.; Manufacturer Part Number: LTST-C191KRKT; Order Code: DIGI: 160-1447-2-ND
footprint Lite-On_RED_0603
pins: 1 C, 2 A

## LTST-C191KSKT
designator D?, comment Color: Yellow Clear  (hidden comment: LED YELLOW CLEAR SMD)
Yellow 591nm LED Indication - Discrete 2.1V 0603 (1608 Metric); Manufacturer Part Number: LTST-C191KSKT; Order Code: DIGI: 160-1448-2-ND
footprint Lite-On_Yellow_0603
pins: 1 C, 2 A

## LTV-354T
designator U?, comment Manufacturer Part Number: LTV-354T  (hidden comment: OPTOISOLATOR 3.75KV TRANS 4-SOP)
Optoisolator Transistor Output 3750Vrms 1 Channel 4-SOP; Order Code: Digi: 160-1333-2-ND; LCSC Manufacturer Part Number: LTV-354T; LCSC Part Number: C119090
footprint Lite-On_LTV-354T_0
pins: 1 Anode/Cathode, 2 Cathode/Anode, 3 E, 4 C

## LTV-354T_1
designator U?, comment Manufacturer Part Number: LTV-354T  (hidden comment: OPTOISOLATOR 3.75KV TRANS 4-SOP)
Optoisolator Transistor Output 3750Vrms 1 Channel 4-SOP; Order Code: Digi: 160-1333-2-ND; LCSC Manufacturer Part Number: LTV-354T; LCSC Part Number: C119090
footprint Lite-On_LTV-354T_0
pins: 1 Anode/Cathode, 2 Cathode/Anode, 3 E, 4 C

## M20-9990246
designator J?
Connector; Manufacturer_Name: Harwin; Manufacturer_Part_Number: M20-9990246; Datasheet Link: https://content.harwin.com/m/0df15f6e0f9f48e2/original/DRG-00479-Technical-Drawing-Datasheet-M20-999-pdf.pdf; Height: 8.64mm; Mouser Part Number: 855-M20-9990246; Mouser Price/Stock: https://www.mouser.co.uk/ProductDetail/Harwin/M20-9990246?qs=Jph8NoUxIfWjw4WmyRvzag%3D%3D
footprint HDRV2W66P0X254_1X2_508X254X864P
pins: 1, 2

## MAL214699112E3
designator C?, comment 1000uF 50V
Vishay Extreme 1000uF 50 V Aluminium Electrolytic Capacitor 1816, 146 CTI Series 4000 h, 5000 h, 350000 h; Manufacturer_Part_Number: MAL214699112E3; Geometry.Height: 17.5mm; Manufacturer_Name: Vishay; Mouser Part Number: 594-MAL214699112E3; Mouser Price/Stock: https://www.mouser.co.uk/ProductDetail/Vishay-BC-Components/MAL214699112E3?qs=Ep9Lwju7gVqvA%252BJOlnnegw%3D%3D; Arrow Part Number: MAL214699112E3; Arrow Price/Stock: https://www.arrow.com/en/products/mal214699112e3/vishay; Datasheet Link: http://www.vishay.com/docs/28403/146cti.pdf
footprint MAL214699112E3
pins: 1, 2

## MAX3232CSE_0
designator U?, comment SP3232EEY
Manufacturer Part Number: ST3232BDR; BOM: I
footprint TSSOP16
pins: 1 C1+, 2 V+, 3 C1-, 4 C2+, 5 C2-, 6 V-, 7 T2OUT, 8 R2IN, 9 R2OUT, 10 T2IN, 11 T1IN, 12 R1OUT, 13 R1IN, 14 T1OUT, 15 GND, 16 VCC

## MBR0520LT1G
designator D?
Diode 20 V 500mA Surface Mount SOD-123
footprint SOD3716X135N
pins: A, C

## MCD-00719
designator U?  value LAN8742A-CZ-TR  (hidden comment: MCD-00719)
10/100M RMII Ethernet transceiver; Manufacturer: MICROCHIP; Part_Type: IC; Provided_By: SUBCO; Internal_Part_Number: MCD-00719; Status: Released; Manufacturer_Part_Number: LAN8742A-CZ-TR; ComponentLink1Description: Datasheet; ComponentLink1URL: http://tunmcdsvn.tun.st.com/Component_Datasheet_Library/Trunk/IC/MICROCHIP_LAN8742A_RMII_PHY; ECCN_US: n/a; ECCN_EU: n/a
footprint ICC_VQFN24-EPAD_4X4_P050
pins: 1 VDD2A, 2 LED2/nINT/nPME/nINTSEL, 3 LED1/nINT/nPME/REGOFF, 4 XTAL2, 5 XTAL1/CLKIN, 6 VDDCR, 7 RXD1/MODE1, 8 RXD0/MODE0, 9 VDDIO, 10 RXER/PHYAD0, 11 CRS_DV/MODE2, 12 MDIO, 13 MDC, 14 nINT/REFCLKO, 15 nRST, 16 TXEN, 17 TXD0, 18 TXD1, 19 VDD1A, 20 TXN, 21 TXP, 22 RXN, 23 RXP, 24 RBIAS, EP VSS_EP

## MCP45HV51-103E/ST
designator U?
IC DGT POT 10KOHM 256TAP 14TSSOP; Manufacturer: Microchip Technology; Manufacturer Part Number: MCP45HV51-103E/ST; Supplier Part Number: MCP45HV51-103E/ST-ND; Value: MCP45HV51-103E/ST
footprint TSSOP-14
pins: 1 VL (power), 2 SCL (in), 3 A1 (in), 4 SDA (io), 5 A0 (in), 6 ~{WLAT} (in), 7 NC, 8 ~{SHDN} (in), 9 DGND (power), 10 V— (power), 11 PB0, 12 PW0, 13 PA0, 14 V+ (power)

## MCP45HV51-103E/ST_1
designator U?, comment MCP45HV51-103E/ST
IC DGT POT 10KOHM 256TAP 14TSSOP; Manufacturer: Microchip Technology; Manufacturer Part Number: MCP45HV51-103E/ST; Supplier Part Number: MCP45HV51-103E/ST-ND; Value: MCP45HV51-103E/ST
footprint TSSOP-14
pins: 1 VL (power), 2 SCL (in), 3 A1 (in), 4 SDA (io), 5 A0 (in), 6 ~{WLAT} (in), 7 NC, 8 ~{SHDN} (in), 9 DGND (power), 10 V— (power), 11 PB0, 12 PW0, 13 PA0, 14 V+ (power)

## MCP45HV51-103E/ST_2
designator U?, comment MCP45HV51-103E/ST
IC DGT POT 10KOHM 256TAP 14TSSOP; Manufacturer: Microchip Technology; Manufacturer Part Number: MCP45HV51-103E/ST; Supplier Part Number: MCP45HV51-103E/ST-ND; Value: MCP45HV51-103E/ST
footprint TSSOP-14
pins: 1 VL (power), 2 SCL (in), 3 A1 (in), 4 SDA (io), 5 A0 (in), 6 ~{WLAT} (in), 7 NC, 8 ~{SHDN} (in), 9 DGND (power), 10 V— (power), 11 PB0, 12 PW0, 13 PA0, 14 V+ (power)

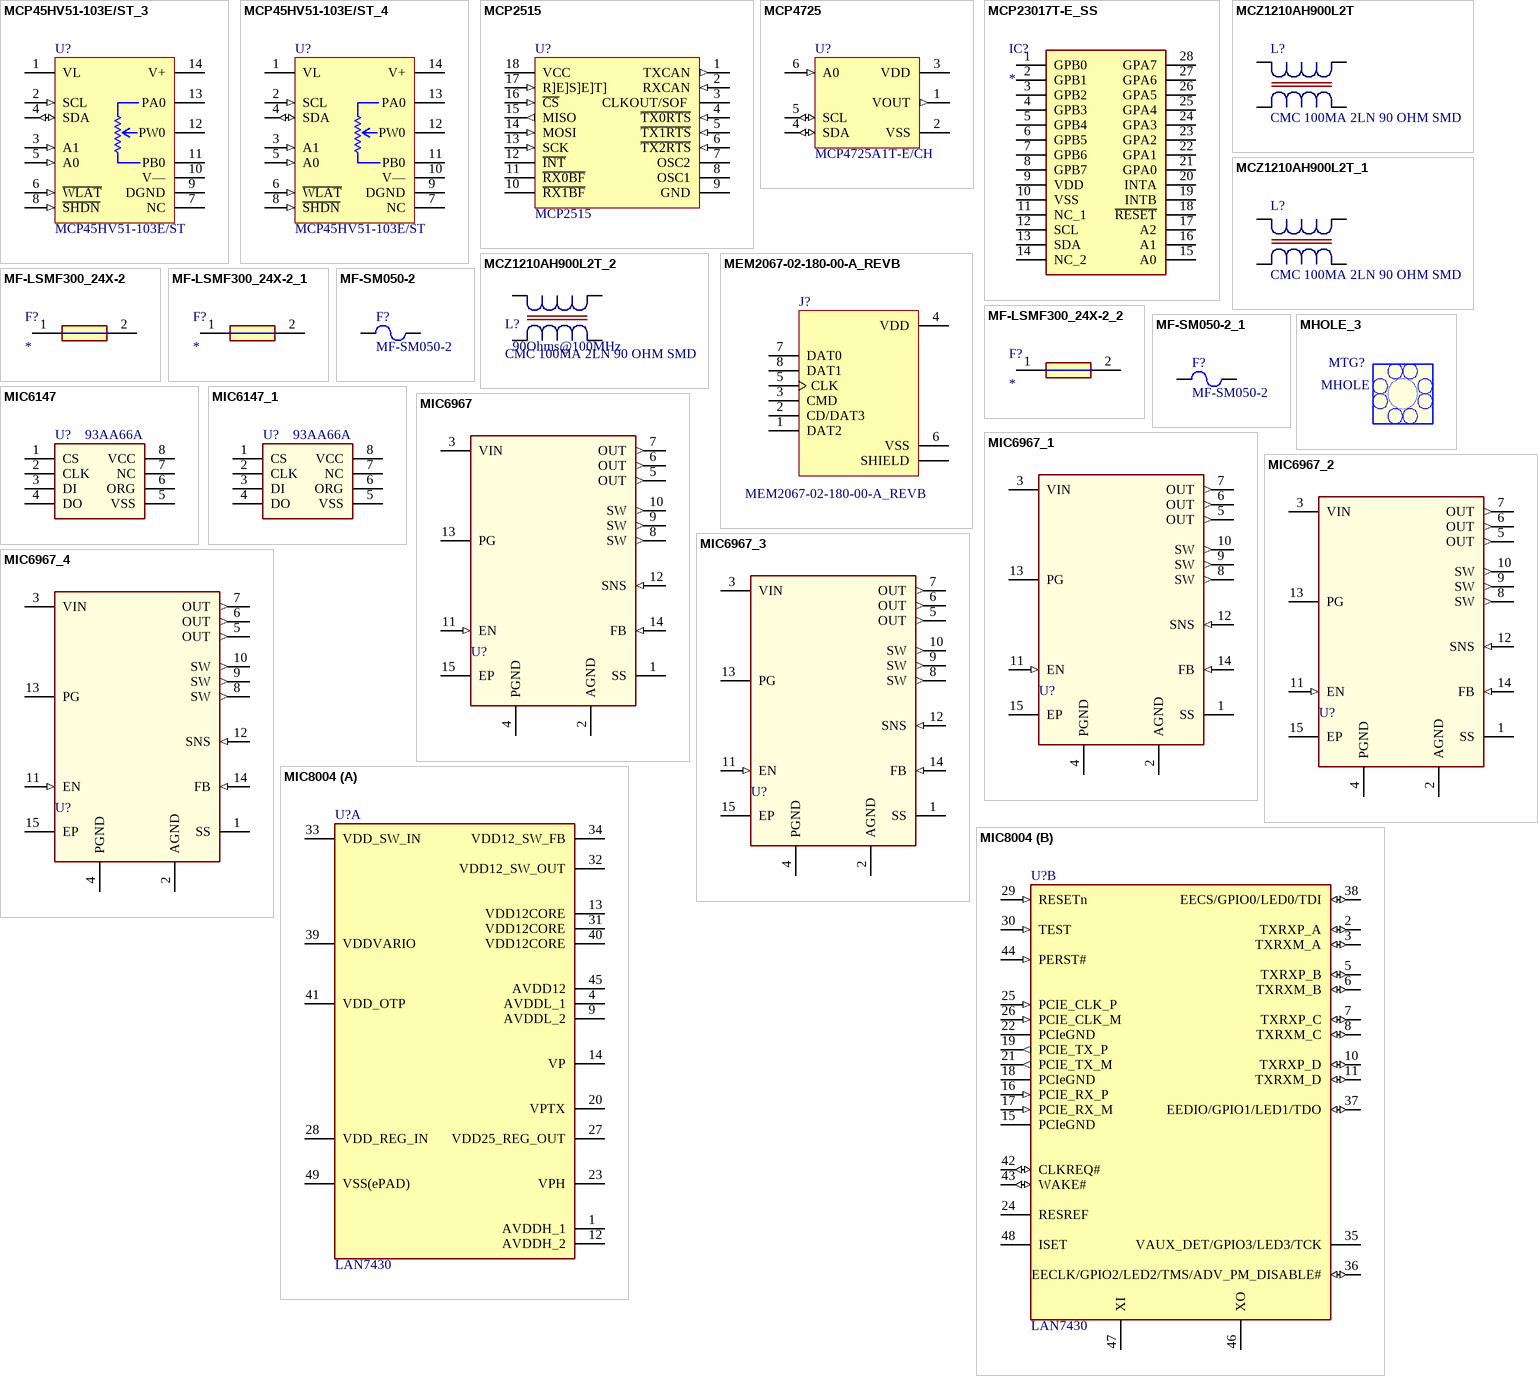
[diagram p28: symbols MCP45HV51-103E/ST_3 to MIC8004]

## MCP45HV51-103E/ST_3
designator U?, comment MCP45HV51-103E/ST
IC DGT POT 10KOHM 256TAP 14TSSOP; Manufacturer: Microchip Technology; Manufacturer Part Number: MCP45HV51-103E/ST; Supplier Part Number: MCP45HV51-103E/ST-ND; Value: MCP45HV51-103E/ST
footprint TSSOP-14
pins: 1 VL (power), 2 SCL (in), 3 A1 (in), 4 SDA (io), 5 A0 (in), 6 ~{WLAT} (in), 7 NC, 8 ~{SHDN} (in), 9 DGND (power), 10 V— (power), 11 PB0, 12 PW0, 13 PA0, 14 V+ (power)

## MCP45HV51-103E/ST_4
designator U?, comment MCP45HV51-103E/ST
IC DGT POT 10KOHM 256TAP 14TSSOP; Manufacturer: Microchip Technology; Manufacturer Part Number: MCP45HV51-103E/ST; Supplier Part Number: MCP45HV51-103E/ST-ND; Value: MCP45HV51-103E/ST
footprint TSSOP-14
pins: 1 VL (power), 2 SCL (in), 3 A1 (in), 4 SDA (io), 5 A0 (in), 6 ~{WLAT} (in), 7 NC, 8 ~{SHDN} (in), 9 DGND (power), 10 V— (power), 11 PB0, 12 PW0, 13 PA0, 14 V+ (power)

## MCP2515
designator U?
IC CAN CONTROLLER W/SPI 18SOIC; Manufacturer Part Number: MCP2515T-I/SO; Manufacturer: IC CAN CONTROLLER W/SPI 18SOIC; Supplier Part Number: MCP2515T-I/SOCT-ND
footprint soic-18 7.5MM
pins: 1 TXCAN (out), 2 RXCAN (in), 3 CLKOUT/SOF , 4 ~{TX0RTS} (in), 5 ~{TX1RTS} (in), 6 ~{TX2RTS} (in), 7 OSC2, 8 OSC1, 9 GND (power), 10 ~{RX1BF}, 11 ~{RX0BF}, 12 ~{INT}, 13 SCK (in), 14 MOSI (in), 15 MISO (out), 16 ~{CS} (in), 17 R]E]S]E]T] (in), 18 VCC (power)

## MCP4725
designator U?, comment MCP4725A1T-E/CH
IC DAC 12BIT V-OUT SOT23-6; Manufacturer: Microchip Technology; Manufacturer Part Number: MCP4725A1T-E/CH; Supplier Part Number: MCP4725A1T-E/CHCT-ND
footprint sot23-6 (PN: MIC2019YM6[Microchip]; CHECKED BY DN_QN - 19FEB19)
pins: 1 VOUT (out), 2 VSS (power), 3 VDD (power), 4 SDA (io), 5 SCL (io), 6 A0 (in)

## MCP23017T-E_SS
designator IC?
Integrated Circuit; Manufacturer_Name: Microchip; Manufacturer_Part_Number: MCP23017T-E/SS; Datasheet Link: https://datasheet.datasheetarchive.com/originals/distributors/SFDatasheet-4/sf-00090057.pdf; Height: 2mm; Mouser Part Number: 579-MCP23017T-E/SS; Mouser Price/Stock: https://www.mouser.co.uk/ProductDetail/Microchip-Technology/MCP23017T-E-SS?qs=usxtMOJb1Rz2FhASIaFluQ%3D%3D; Arrow Part Number: MCP23017T-E/SS; Arrow Price/Stock: https://www.arrow.com/en/products/mcp23017t-ess/microchip-technology?region=nac
footprint SOP65P780X200-28N
pins: 1 GPB0, 2 GPB1, 3 GPB2, 4 GPB3, 5 GPB4, 6 GPB5, 7 GPB6, 8 GPB7, 9 VDD, 10 VSS, 11 NC_1, 12 SCL, 13 SDA, 14 NC_2, 15 A0, 16 A1, 17 A2, 18 ~{RESET}, 19 INTB, 20 INTA, 21 GPA0, 22 GPA1, 23 GPA2, 24 GPA3, 25 GPA4, 26 GPA5, 27 GPA6, 28 GPA7

## MCZ1210AH900L2T
designator L?, comment CMC 100MA 2LN 90 OHM SMD
2 Line Common Mode Choke Surface Mount 90 Ohms @ 100 MHz 100mA DCR 1.75Ohm; Manufacturer Part Number: MCZ1210AH900L2TA0G; LCSC Manufacturer Part Number: MCZ1210AH900L2TD0G; Order Code: Digi: 445-MCZ1210AH900L2TA0GTR-ND; LCSC Part Number: C435268
footprint IND_MCZ1210AH_TDK
pins: 1, 2, 3 4, 4

## MCZ1210AH900L2T_1
designator L?, comment CMC 100MA 2LN 90 OHM SMD
2 Line Common Mode Choke Surface Mount 90 Ohms @ 100 MHz 100mA DCR 1.75Ohm; Manufacturer Part Number: MCZ1210AH900L2TA0G; LCSC Manufacturer Part Number: MCZ1210AH900L2TD0G; Order Code: Digi: 445-MCZ1210AH900L2TA0GTR-ND; LCSC Part Number: C435268
footprint IND_MCZ1210AH_TDK
pins: 1, 2, 3 4, 4

## MCZ1210AH900L2T_2
designator L?, comment CMC 100MA 2LN 90 OHM SMD  value 90Ohms@100MHz
2 Line Common Mode Choke Surface Mount 90 Ohms @ 100 MHz 100mA DCR 1.75Ohm; Manufacturer Part Number: MCZ1210AH900L2TA0G; Order Code: DIGI:: 445-MCZ1210AH900L2TA0GTR-ND
footprint IND_MCZ1210AH_TDK
pins: 1, 2, 3 4, 4

## MEM2067-02-180-00-A_REVB
designator J?
Micro SD Memory Card ConnectorSMT, Hinged, 1.80mm Profile; Price: None; Value: *; Manufacturer Part Number: MEM2067-02-180-00-A_REVB; Package: None; Availability: Unavailable
footprint GCT_MEM2067-02-180-00-A_REVB
pins: 1 DAT2, 2 CD/DAT3, 3 CMD, 4 VDD, 5 CLK, 6 VSS, 7 DAT0, 8 DAT1, 9 SHIELD, 10 SHIELD, 11 SHIELD, 12 SHIELD

## MF-LSMF300_24X-2
designator F?
Fuse; Manufacturer_Name: Bourns; Manufacturer_Part_Number: MF-LSMF300/24X-2; Datasheet Link: https://www.bourns.com/docs/Product-Datasheets/mflsmf.pdf; Height: 1.6mm; Mouser Part Number: 652-MF-LSMF300/24X-2; Mouser Price/Stock: https://www.mouser.co.uk/ProductDetail/Bourns/MF-LSMF300-24X-2?qs=LaERWbmZ8SQFElU5s8JsYg%3D%3D; Arrow Part Number: MF-LSMF300/24X-2; Arrow Price/Stock: https://www.arrow.com/en/products/mf-lsmf30024x-2/bourns?region=nac
footprint FUSC7451X160N
pins: 1, 2

## MF-LSMF300_24X-2_1
designator F?
Fuse; Manufacturer_Name: Bourns; Manufacturer_Part_Number: MF-LSMF300/24X-2; Datasheet Link: https://www.bourns.com/docs/Product-Datasheets/mflsmf.pdf; Height: 1.6mm; Mouser Part Number: 652-MF-LSMF300/24X-2; Mouser Price/Stock: https://www.mouser.co.uk/ProductDetail/Bourns/MF-LSMF300-24X-2?qs=LaERWbmZ8SQFElU5s8JsYg%3D%3D; Arrow Part Number: MF-LSMF300/24X-2; Arrow Price/Stock: https://www.arrow.com/en/products/mf-lsmf30024x-2/bourns?region=nac
footprint FUSC7451X160N
pins: 1, 2

## MF-LSMF300_24X-2_2
designator F?
Fuse; Manufacturer_Name: Bourns; Manufacturer_Part_Number: MF-LSMF300/24X-2; Datasheet Link: https://www.bourns.com/docs/Product-Datasheets/mflsmf.pdf; Height: 1.6mm; Mouser Part Number: 652-MF-LSMF300/24X-2; Mouser Price/Stock: https://www.mouser.co.uk/ProductDetail/Bourns/MF-LSMF300-24X-2?qs=LaERWbmZ8SQFElU5s8JsYg%3D%3D; Arrow Part Number: MF-LSMF300/24X-2; Arrow Price/Stock: https://www.arrow.com/en/products/mf-lsmf30024x-2/bourns?region=nac
footprint FUSC7451X160N
pins: 1, 2

## MF-SM050-2
designator F?
PTC Resettable Fuse, 60 V, 40 A, -40 to 85 degC, 2-Pin SMD, RoHS, Tape and Reel; Manufacturer Part Number: MF-SM050-2; LCSC Manufacturer Part Number: MF-SM050-2; LCSC Part Number: C208496
footprint BOUR-MF-SM050-2_V (SMD, 2-Leads, Body 7.355x5.44mm)
pins: 1, 2

## MF-SM050-2_1
designator F?, comment MF-SM050-2
PTC Resettable Fuse, 60 V, 40 A, -40 to 85 degC, 2-Pin SMD, RoHS, Tape and Reel; Manufacturer Part Number: MF-SM050-2; LCSC Manufacturer Part Number: MF-SM050-2; LCSC Part Number: C208496
footprint BOUR-MF-SM050-2_V (SMD, 2-Leads, Body 7.355x5.44mm)
pins: 1, 2

## MHOLE_3
designator MTG?, comment MHOLE
PCB Footprint: hole3_2p-8
footprint mh230-156
footprint hole3_2p-8
pins: 1 GND1, 2 GND2, 3 GND3, 4 GND4, 5 GND5, 6 GND6, 7 GND7, 8 GND8, 9 GND9

## MIC6147
designator U?, comment 93AA66A
MCHP MEMORY SERIAL EEPROM 4k Microwire 93AA66A-I/SN SOIC-8; Manufacturer: Microchip; Value: 93AA66A; Revision: B; Supplier Part Number: 579-93AA66A-I/SN; Manufacturer Part Number: 93AA66A-I/SN
footprint SOIC-8 150mil (Footprint not found)
pins: 1 CS, 2 CLK, 3 DI, 4 DO, 5 VSS, 6 ORG, 7 NC, 8 VCC

## MIC6147_1
designator U?, comment 93AA66A
MCHP MEMORY SERIAL EEPROM 4k Microwire 93AA66A-I/SN SOIC-8; Manufacturer: Microchip; Value: 93AA66A; Revision: B; Supplier Part Number: 579-93AA66A-I/SN; Manufacturer Part Number: 93AA66A-I/SN
footprint SOIC-8 150mil (Footprint not found)
pins: 1 CS, 2 CLK, 3 DI, 4 DO, 5 VSS, 6 ORG, 7 NC, 8 VCC

## MIC6967
designator U?, comment MIC33153 VFDFN-14  (value not drawn)
IC REG BUCK ADJ 1.2A SYNC 14MLF; Manufacturer: Microchip; Manufacturer Part Number: MIC33153YHJ-TR; ComponentLink1Description: https://datasheet.ciiva.com/2028/mic33153-2028656.pdf?src-supplier=Digi-Key; ComponentLink2URL: C:\ALTIUM_WORK\00001_MCHP-CDB\Datasheets\mic33153.pdf; ComponentLink2Description: Local Datasheet; ComponentLink3URL: C:\ALTIUM_WORK\00001_MCHP-CDB\Library\LibraryRefs\MIC33153 VFDFN-14.SchLib; ComponentLink3Description: Open Symbol; ComponentLink4URL: C:\ALTIUM_WORK\00001_MCHP-CDB\Library\Footprints\VFDFN-14_3X3.5_MIC33153.PcbLib; ComponentLink4Description: Open Footprint; ComponentLink5Description: https://datasheet.ciiva.com/2028/mic33153-2028657.pdf?src-supplier=Digi-Key; ComponentLink6Description: https://datasheet.ciiva.com/26845/getdatasheetpartid-734992-26845015.pdf?src-supplier=Verical; ComponentLink7Description: https://datasheet.ciiva.com/2028/mic33153-2028655.pdf?src-supplier=Digi-Key; Supplier 1: Digi-Key; Supplier Part Number 1: 576-3904-1-ND; RoHS: Yes; Category: Voltage Regulators - Switching; Stock 1: 6735; Pricing 1: 1=1,76000, 25=1,47000, 100=1,33000 (USD); ComponentLink1URL: https://datasheet.ciiva.com/2028/mic33153-2028656.pdf?src-supplier=Digi-Key; ComponentLink5URL: https://datasheet.ciiva.com/2028/mic33153-2028657.pdf?src-supplier=Digi-Key; ComponentLink6URL: https://datasheet.ciiva.com/26845/getdatasheetpartid-734992-26845015.pdf?src-supplier=Verical; ComponentLink7URL: https://datasheet.ciiva.com/2028/mic33153-2028655.pdf?src-supplier=Digi-Key
footprint MLF-14_3x3.5mm (14 Lead MLF Package 3x3.5mm Height 0.95mm)
pins: 1 SS (power), 2 AGND (power), 3 VIN (power), 4 PGND (power), 5 OUT (out), 6 OUT (out), 7 OUT (out), 8 SW (out), 9 SW (out), 10 SW (out), 11 EN (in), 12 SNS (in), 13 PG (oc), 14 FB (in), 15 EP (power)
1 alternate drawing of the same symbol

## MIC6967_1
designator U?, comment MIC33153 VFDFN-14  (value not drawn)
IC REG BUCK ADJ 1.2A SYNC 14MLF; Manufacturer: Microchip; Manufacturer Part Number: MIC33153YHJ-TR; ComponentLink1Description: https://datasheet.ciiva.com/2028/mic33153-2028656.pdf?src-supplier=Digi-Key; ComponentLink2URL: C:\ALTIUM_WORK\00001_MCHP-CDB\Datasheets\mic33153.pdf; ComponentLink2Description: Local Datasheet; ComponentLink3URL: C:\ALTIUM_WORK\00001_MCHP-CDB\Library\LibraryRefs\MIC33153 VFDFN-14.SchLib; ComponentLink3Description: Open Symbol; ComponentLink4URL: C:\ALTIUM_WORK\00001_MCHP-CDB\Library\Footprints\VFDFN-14_3X3.5_MIC33153.PcbLib; ComponentLink4Description: Open Footprint; ComponentLink5Description: https://datasheet.ciiva.com/2028/mic33153-2028657.pdf?src-supplier=Digi-Key; ComponentLink6Description: https://datasheet.ciiva.com/26845/getdatasheetpartid-734992-26845015.pdf?src-supplier=Verical; ComponentLink7Description: https://datasheet.ciiva.com/2028/mic33153-2028655.pdf?src-supplier=Digi-Key; Supplier 1: Digi-Key; Supplier Part Number 1: 576-3904-1-ND; RoHS: Yes; Category: Voltage Regulators - Switching; Stock 1: 6735; Pricing 1: 1=1,76000, 25=1,47000, 100=1,33000 (USD); ComponentLink1URL: https://datasheet.ciiva.com/2028/mic33153-2028656.pdf?src-supplier=Digi-Key; ComponentLink5URL: https://datasheet.ciiva.com/2028/mic33153-2028657.pdf?src-supplier=Digi-Key; ComponentLink6URL: https://datasheet.ciiva.com/26845/getdatasheetpartid-734992-26845015.pdf?src-supplier=Verical; ComponentLink7URL: https://datasheet.ciiva.com/2028/mic33153-2028655.pdf?src-supplier=Digi-Key
footprint MLF-14_3x3.5mm (14 Lead MLF Package 3x3.5mm Height 0.95mm)
pins: 1 SS (power), 2 AGND (power), 3 VIN (power), 4 PGND (power), 5 OUT (out), 6 OUT (out), 7 OUT (out), 8 SW (out), 9 SW (out), 10 SW (out), 11 EN (in), 12 SNS (in), 13 PG (oc), 14 FB (in), 15 EP (power)
1 alternate drawing of the same symbol